# EAGLE library part 251641 (library commodore-plus4)
251641 - Commodore Plus 4 PLA
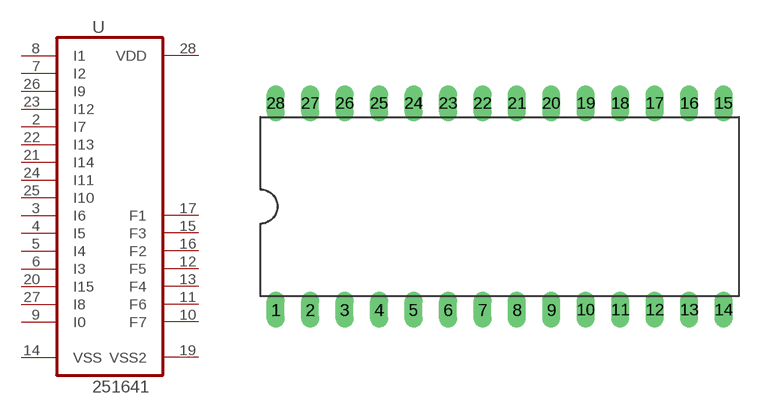
[diagram p5: symbol with the pads of DIL28-6; footprint DIL28-6]

Designator prefix -

## 251641  [DIL28-6]
2  I7  in
3  I6  in
4  I5
5  I4  in
6  I3  pas
7  I2
8  I1
9  I0  in
10  F7
11  F6
12  F5
13  F4
14  VSS
15  F3
16  F2  in
17  F1  hiz
19  VSS2
20  I15  in
21  I14  in
22  I13  in
23  I12  in
24  I11  in
25  I10  in
26  I9
27  I8  in
28  VDD

## Footprint DIL28-6 (pad centres in mm)
Dual In Line Package 0.6 inch
drill 0.813 long: 1 -16.51,-7.62; 2 -13.97,-7.62; 3 -11.43,-7.62; 4 -8.89,-7.62; 5 -6.35,-7.62; 6 -3.81,-7.62; 7 -1.27,-7.62; 8 1.27,-7.62; 9 3.81,-7.62; 10 6.35,-7.62; 11 8.89,-7.62; 12 11.43,-7.62; 13 13.97,-7.62; 14 16.51,-7.62; 15 16.51,7.62; 16 13.97,7.62; 17 11.43,7.62; 18 8.89,7.62; 19 6.35,7.62; 20 3.81,7.62; 21 1.27,7.62; 22 -1.27,7.62; 23 -3.81,7.62; 24 -6.35,7.62; 25 -8.89,7.62; 26 -11.43,7.62; 27 -13.97,7.62; 28 -16.51,7.62